# EAGLE library part 5560ИН4У (library transceivers)
АЕЯР.431200.765-04 ТУ 5560ИН4У - Приемник по стандарту LVDS с последовательно-параллельным преобразователем. Микросхема 5560ИН4У – представляет собой приёмник стандарта LVDS с последовательно-параллельным преобразователем для приема последовательных данных с уровнями стандарта LVDS и преобразования их в 10-разрядный параллельный код с уровнями КМОП/ТТЛ.
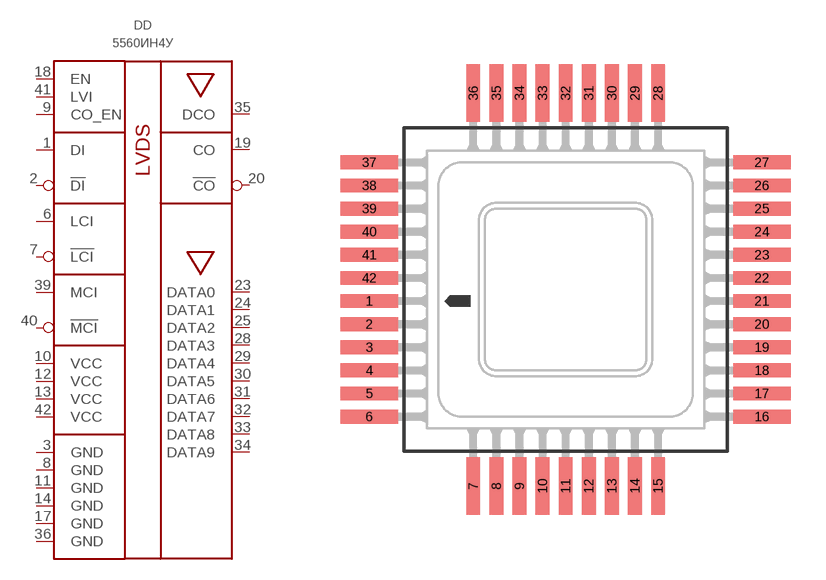
[diagram p12: symbol with the pads of Н14.42-1В; footprint Н14.42-1В]

Designator prefix DD

## 5560ИН4У  [Н14.42-1В]
1  DI  in
2  !DI  in
3  GND  pwr
6  LCI  in
7  !LCI  in
8  GND  pwr
9  CO_EN  in
10  VCC  pwr
11  GND  pwr
12  VCC  pwr
13  VCC  pwr
14  GND  pwr
17  GND  pwr
18  EN  in
19  CO  out
20  !CO  out
23  DATA0  out
24  DATA1  out
25  DATA2  out
28  DATA3  out
29  DATA4  out
30  DATA5  out
31  DATA6  out
32  DATA7  out
33  DATA8  out
34  DATA9  out
35  DCO  out
36  GND  pwr
39  MCI  in
40  !MCI  in
41  LVI  in
42  VCC  pwr

## Footprint Н14.42-1В (pad centres in mm)
smd 2.5 x 0.6: 1 -8.5,-0.5; 2 -8.5,-1.5; 3 -8.5,-2.5; 4 -8.5,-3.5; 5 -8.5,-4.5; 6 -8.5,-5.5; 16 8.5,-5.5; 17 8.5,-4.5; 18 8.5,-3.5; 19 8.5,-2.5; 20 8.5,-1.5; 21 8.5,-0.5; 22 8.5,0.5; 23 8.5,1.5; 24 8.5,2.5; 25 8.5,3.5; 26 8.5,4.5; 27 8.5,5.5; 37 -8.5,5.5; 38 -8.5,4.5; 39 -8.5,3.5; 40 -8.5,2.5; 41 -8.5,1.5; 42 -8.5,0.5
smd 0.6 x 2.5: 7 -4,-8.5; 8 -3,-8.5; 9 -2,-8.5; 10 -1,-8.5; 11 0,-8.5; 12 1,-8.5; 13 2,-8.5; 14 3,-8.5; 15 4,-8.5; 28 4,8.5; 29 3,8.5; 30 2,8.5; 31 1,8.5; 32 0,8.5; 33 -1,8.5; 34 -2,8.5; 35 -3,8.5; 36 -4,8.5